# Altium footprint library PcbLib1.PcbLib: 11 footprints
Each footprint in its own frame and in the unit in brackets; x right, y up, seen from the top. Pads: shape width x height; smd on the part's side, far side on the other; paste and mask are expansions set on the pad; w line width, h text height; cw(c..) or ccw(c..) is an arc to the next point about the centre after c.
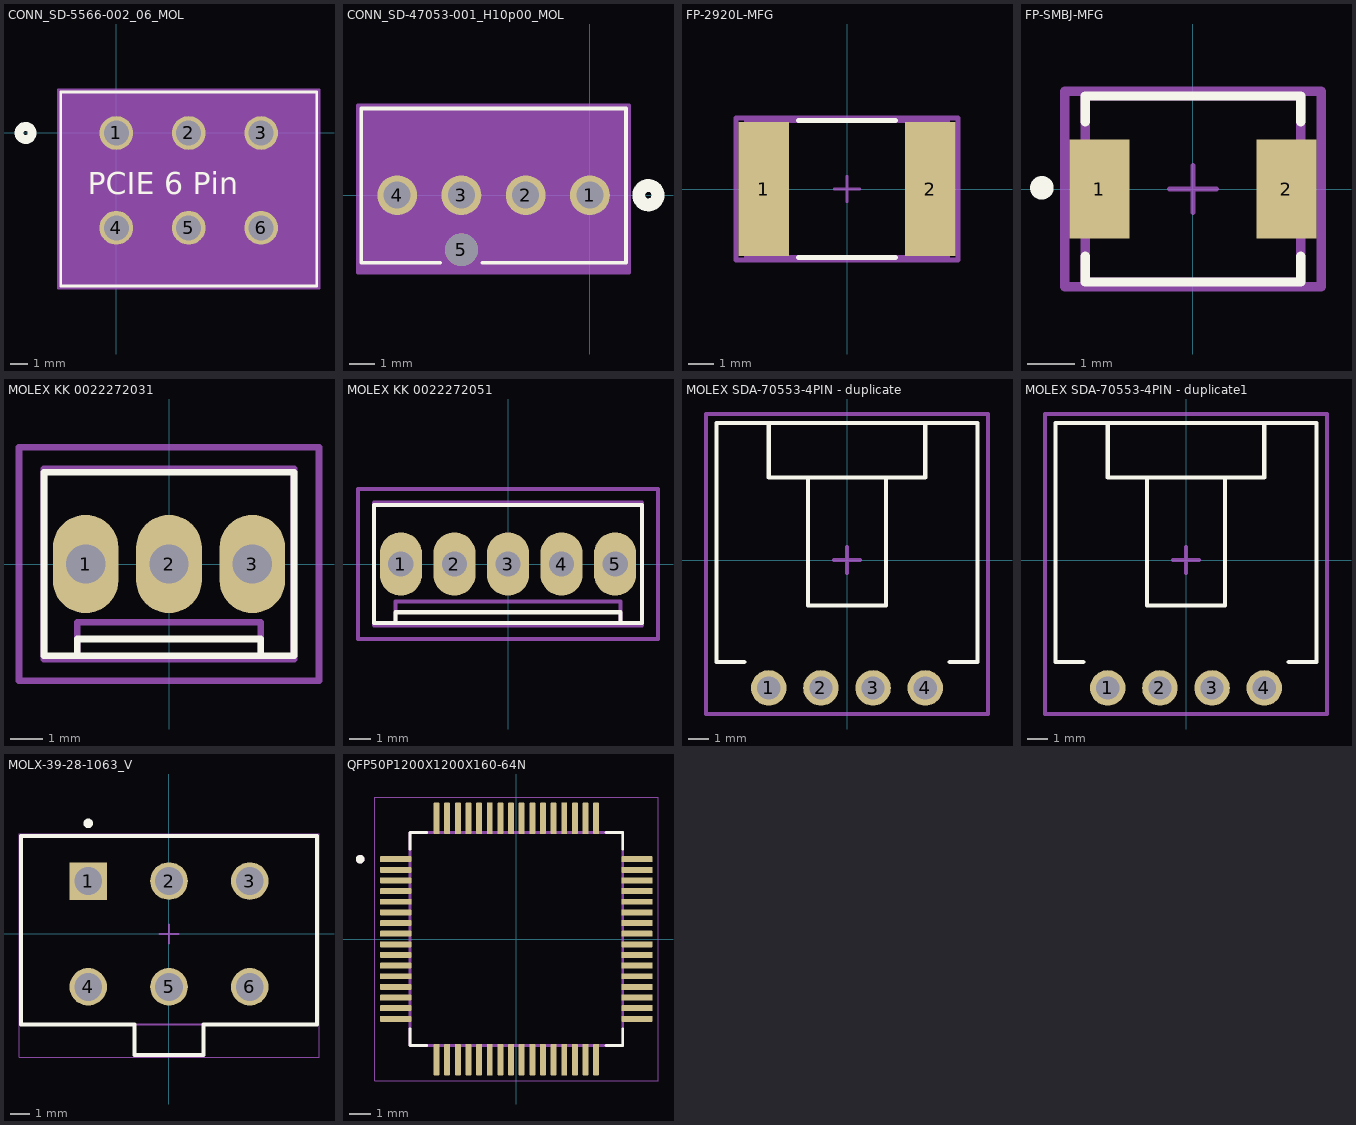
[diagram p0: the footprints below, top view; thin cyan lines are the x and y axes]

## CONN_SD-5566-002_06_MOL [mil]
pads (6):
  round 77 hole 57 paste-99999 mask+0: 1(0,0) 2(165.35,0) 3(330.71,0) 4(0,-216.54) 5(165.35,-216.54) 6(330.71,-216.54)
Top Overlay:
  circle w20: c-207.15,0 r15
  lines w6: -127.15,-349.42 457.85,-349.42 457.85,93.58 -127.15,93.58 -127.15,-349.42
  text "PCIE 6 Pin" at -65,-140 h50
Bottom Overlay:
  circle w20: c-207.15,0 r15
Mechanical 13:
  circle w20: c0,0 r15
  lines w1: -122.15,-344.42 452.85,-344.42 452.85,88.58 -122.15,88.58 -122.15,-344.42
Mechanical 15:
  region: 462.85,98.58 -132.15,98.58 -132.15,-354.42 462.85,-354.42
  lines w6: -132.15,-354.42 -132.15,98.58 462.85,98.58 462.85,-354.42 -132.15,-354.42

## CONN_SD-47053-001_H10p00_MOL [mil]
pads (5):
  round 62 hole 42 paste-99999 mask+0: 1(0,0) 2(-100,0) 3(-200,0) 4(-300,0)
  round 51 hole 51 unplated paste-99999 mask+0: 5(-200,-85.04)
Top Overlay:
  circle w20: c91,0 r15
  lines w6: -232.99,-105.08 -356,-105.08 -356,134.92 56,134.92 56,-105.08 -167.01,-105.08
  text ".Designator" at -370,-175 h50
Bottom Overlay:
  circle w20: c91,0 r15
Mechanical 13:
  circle w20: c0,0 r15
  lines w1: -351,-100.08 51,-100.08 51,129.92 -351,129.92 -351,-100.08
Mechanical 15:
  region: 61,139.92 -361,139.92 -361,-120.54 61,-120.54
  lines w6: -361,-120.54 -361,139.92 61,139.92 61,-120.54 -361,-120.54

## FP-2920L-MFG [mm]
pads (2):
  rect 2x5.3 smd paste+0 mask+0: 1(-3.3,0) 2(3.3,0)
Top Overlay:
  lines w0.2: -1.925,-2.72 1.925,-2.72 ; -1.925,2.72 1.925,2.72
Top 3D Body:
  lines w0.2: -3.99,-2.72 -3.99,2.72 3.99,2.72 3.99,-2.72 -3.99,-2.72
Top Courtyard:
  lines w0.2: -4.4,-2.82 -4.4,2.82 4.4,2.82 4.4,-2.82 -4.4,-2.82
Top Assembly:
  lines w0.2: -4.4,-2.82 -4.4,2.82 4.4,2.82 4.4,-2.82 -4.4,-2.82
  text ".Designator" at 0,0.188 h1
Top Component Center:
  lines w0.1: -0.5,0 0.5,0 ; 0,-0.5 0,0.5
3D body "Fuse_Littelfuse_2920L110-60MR_eec.STEP": height 0.25, standoff 0, extent -4.4,-2.82 4.4,2.82

## FP-SMBJ-MFG [mm]
pads (2):
  rect 1.27x2.1 smd paste+0 mask+0: 1(-1.98,0) 2(1.98,0)
Top Overlay:
  circle w0.25: c-3.2,0.025 r0.125
  lines w0.2: -2.285,-1.425 -2.285,-1.97 2.285,-1.97 2.285,-1.425 ; -2.285,1.425 -2.285,1.97 2.285,1.97 2.285,1.425
Top 3D Body:
  lines w0.2: -2.285,-1.97 -2.285,1.97 2.285,1.97 2.285,-1.97 -2.285,-1.97
Top Courtyard:
  lines w0.2: -2.715,-2.07 -2.715,2.07 2.715,2.07 2.715,-2.07 -2.715,-2.07
Top Assembly:
  lines w0.2: -2.715,-2.07 -2.715,2.07 2.715,2.07 2.715,-2.07 -2.715,-2.07
  text ".Designator" at -2.159,2.601 h1
Top Component Center:
  lines w0.1: -0.5,0 0.5,0 ; 0,-0.5 0,0.5
3D body "Diode_Bourns_Inc_SMBJ5_0A_eec.STEP": height 0.25, standoff 0, extent -2.715,-2.07 2.715,2.07

## MOLEX KK 0022272031 [mm]
height 11.6
pads (3):
  oval 2x3 hole 1.2: 1(-2.54,0) 2(0,0) 3(2.54,0)
Top Overlay:
  lines w0.2: -2.794,-2.794 -2.794,-2.286 2.794,-2.286 2.794,-2.794 ; -3.81,-2.794 3.81,-2.794 3.81,2.794 -3.81,2.794 -3.81,-2.794
Mechanical 13:
  lines w0.2: -2.794,-2.9 -2.794,-1.778 2.794,-1.778 2.794,-2.9 ; -3.81,-2.9 -3.81,2.9 3.81,2.9 3.81,-2.9 -3.81,-2.9
Mechanical 15:
  lines w0.2: -0.508,0 0.508,0 ; 0,-0.508 0,0.508 ; -4.572,-3.556 -4.572,3.556 4.572,3.556 4.572,-1.016 4.572,-3.556 -2.286,-3.556 -4.572,-3.556
3D body "MOLEX KK 022272031.STEP": height 11.7, standoff -3.56, extent -3.81,-2.9 3.81,2.9

## MOLEX KK 0022272051 [mm]
height 11.6
pads (5):
  oval 2x3 hole 1.2: 1(-5.08,0) 2(-2.54,0) 3(0,0) 4(2.54,0) 5(5.08,0)
Top Overlay:
  lines w0.2: -5.334,-2.794 -5.334,-2.286 5.334,-2.286 5.334,-2.794 ; -6.35,-2.794 6.35,-2.794 6.35,2.794 -6.35,2.794 -6.35,-2.794
Mechanical 13:
  lines w0.2: -5.334,-2.9 -5.334,-1.778 5.334,-1.778 5.334,-2.9 ; -6.35,-2.9 -6.35,2.9 6.35,2.9 6.35,-2.9 -6.35,-2.9
Mechanical 15:
  lines w0.2: -0.508,0 0.508,0 ; 0,-0.508 0,0.508 ; -7.112,-3.556 -7.112,3.556 7.112,3.556 7.112,-1.016 7.112,-3.556 -7.112,-3.556
3D body "MOLEX KK 022272051.STEP": height 11.7, standoff -3.56, extent -6.35,-2.9 6.35,2.9

## MOLEX SDA-70553-4PIN - duplicate [mm] "SL Right Angle Header W/LAtch & Trip-Pegs 2.54mm Centres"
height 6.99
pads (4):
  round 1.73 hole 1.13: 1(-3.81,-6.223) 2(-1.27,-6.223) 3(1.27,-6.223) 4(3.81,-6.223)
Top Overlay:
  lines w0.2: -5,-4.953 -6.35,-4.953 -6.35,6.677 6.35,6.677 6.35,-4.953 5,-4.953 ; -3.81,6.677 -3.81,4.019 3.81,4.019 3.81,6.677 ; -1.905,4.019 -1.905,-2.219 1.905,-2.219 1.905,4.019
Mechanical 15:
  lines w0.2: -0.635,0 0.635,0 ; 0,-0.635 0,0.635 ; -6.858,-7.493 6.858,-7.493 6.858,7.112 -6.858,7.112 -6.858,-7.493
3D body "705530003.STEP": height 6.98, standoff -3.3, extent -6.35,-6.923 6.35,6.666

## MOLEX SDA-70553-4PIN - duplicate1 [mm] "SL Right Angle Header W/LAtch & Trip-Pegs 2.54mm Centres"
height 6.99
pads (4):
  round 1.73 hole 1.13: 1(-3.81,-6.223) 2(-1.27,-6.223) 3(1.27,-6.223) 4(3.81,-6.223)
Top Overlay:
  lines w0.2: -5,-4.953 -6.35,-4.953 -6.35,6.677 6.35,6.677 6.35,-4.953 5,-4.953 ; -3.81,6.677 -3.81,4.019 3.81,4.019 3.81,6.677 ; -1.905,4.019 -1.905,-2.219 1.905,-2.219 1.905,4.019
Mechanical 15:
  lines w0.2: -0.635,0 0.635,0 ; 0,-0.635 0,0.635 ; -6.858,-7.493 6.858,-7.493 6.858,7.112 -6.858,7.112 -6.858,-7.493
3D body "705530003.STEP": height 6.98, standoff -3.3, extent -6.45,-6.339 6.25,7.25

## MOLX-39-28-1063_V [mm] "PCB Header, 6-Leads, Vertical, Pitch 4.2 mm, Through Hole"
height 13.1
pads (6):
  rect 1.95x1.95 hole 1.45: 1(-4.2,2.75)
  round 1.95 hole 1.45: 2(0,2.75) 3(4.2,2.75) 4(-4.2,-2.75) 5(0,-2.75) 6(4.2,-2.75)
Top Overlay:
  circle w0.25: c-4.2,5.75 r0.125
  lines w0.2: -7.7,-4.7 -7.7,5.1 7.7,5.1 7.7,-4.7 1.8,-4.7 1.8,-6.3 -1.8,-6.3 -1.8,-4.7 -7.7,-4.7
Mechanical 13:
  lines w0.1: -1.8,-4.7 -1.8,-6.3 1.8,-6.3 1.8,-4.7 ; -7.7,-4.7 7.7,-4.7 7.7,5.1 -7.7,5.1 -7.7,-4.7
Mechanical 15:
  lines w0.05: -7.8,-6.4 7.8,-6.4 7.8,5.2 -7.8,5.2 -7.8,-6.4
  lines w0.1: -0.5,0 0.5,0 ; 0,-0.5 0,0.5
3D body "039281063.stp": height 12.8, standoff -3.5, extent -7.3,-6 7.3,5

## PCBComponent_1 [mm]

## QFP50P1200X1200X160-64N [mm]
height 1.6
pads (64):
  rrect25% 1.47x0.28 smd: 1(-5.67,3.75) 2(-5.67,3.25) 3(-5.67,2.75) 4(-5.67,2.25) 5(-5.67,1.75) 6(-5.67,1.25) 7(-5.67,0.75) 8(-5.67,0.25) 9(-5.67,-0.25) 10(-5.67,-0.75) 11(-5.67,-1.25) 12(-5.67,-1.75) 13(-5.67,-2.25) 14(-5.67,-2.75) 15(-5.67,-3.25) 16(-5.67,-3.75) 33(5.67,-3.75) 34(5.67,-3.25) 35(5.67,-2.75) 36(5.67,-2.25) 37(5.67,-1.75) 38(5.67,-1.25) 39(5.67,-0.75) 40(5.67,-0.25) 41(5.67,0.25) 42(5.67,0.75) 43(5.67,1.25) 44(5.67,1.75) 45(5.67,2.25) 46(5.67,2.75) 47(5.67,3.25) 48(5.67,3.75)
  rrect25% 0.28x1.47 smd: 17(-3.75,-5.67) 18(-3.25,-5.67) 19(-2.75,-5.67) 20(-2.25,-5.67) 21(-1.75,-5.67) 22(-1.25,-5.67) 23(-0.75,-5.67) 24(-0.25,-5.67) 25(0.25,-5.67) 26(0.75,-5.67) 27(1.25,-5.67) 28(1.75,-5.67) 29(2.25,-5.67) 30(2.75,-5.67) 31(3.25,-5.67) 32(3.75,-5.67) 49(3.75,5.67) 50(3.25,5.67) 51(2.75,5.67) 52(2.25,5.67) 53(1.75,5.67) 54(1.25,5.67) 55(0.75,5.67) 56(0.25,5.67) 57(-0.25,5.67) 58(-0.75,5.67) 59(-1.25,5.67) 60(-1.75,5.67) 61(-2.25,5.67) 62(-2.75,5.67) 63(-3.25,5.67) 64(-3.75,5.67)
Top Overlay:
  circle w0.2: c-7.34,3.75 r0.1
  lines w0.127: -5,-4.21 -5,-5 -4.21,-5 ; -5,4.21 -5,5 -4.21,5 ; 4.21,-5 5,-5 5,-4.21 ; 4.21,5 5,5 5,4.21
Mechanical 13:
  circle w0.2: c-7.34,3.75 r0.1
  lines w0.127: -5,-5 5,-5 5,5 -5,5 -5,-5
Mechanical 15:
  lines w0.05: -6.655,-6.655 6.655,-6.655 6.655,6.655 -6.655,6.655 -6.655,-6.655
3D body "step_temp.STEP": height 0.72, standoff -0.87, extent -6,-6 6,6